# EAGLE library part FDS9934C (library bt_motordriver)
Complementary MOSFET These dual N- and P-Channel enhancement mode power field effect transistors are produced using Fairchild Semiconductor’s advanced PowerTrench process that has been especially tailored to minimize on-state ressitance and yet maintain superior switching performance. These devices are well suited for low voltage and battery powered applications where low in-line power loss and fast switching are required. http://www.fairchildsemi.com/ds/FD/FDS9934C.pdf
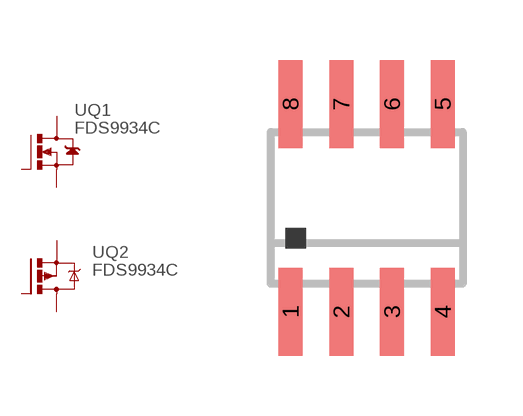
[diagram p3: symbol with the pads of SOIC8; footprint SOIC8]

Designator prefix -; gates Q1=MOSFET-N Q2=MOSFET-P

## FDS9934C  [SOIC8]
1  Q1:S  pas
2  Q1:G  pas
3  Q2:S  pas
4  Q2:G  pas
5  Q2:D  pas
6  Q2:D  pas
7  Q1:D  pas
8  Q1:D  pas

## Footprint SOIC8 (pad centres in mm)
Small Outline IC From ref-packages.lbr
smd 0.6 x 2.2: 1 -1.905,-2.6; 2 -0.635,-2.6; 3 0.635,-2.6; 4 1.905,-2.6; 5 1.905,2.6; 6 0.635,2.6; 7 -0.635,2.6; 8 -1.905,2.6